# Altium footprint library Footprint_library.PcbLib: 95 footprints (part 1 of 6)
Each footprint in its own frame and in the unit in brackets; x right, y up, seen from the top. Pads: shape width x height; smd on the part's side, far side on the other; paste and mask are expansions set on the pad; w line width, h text height; cw(c..) or ccw(c..) is an arc to the next point about the centre after c.
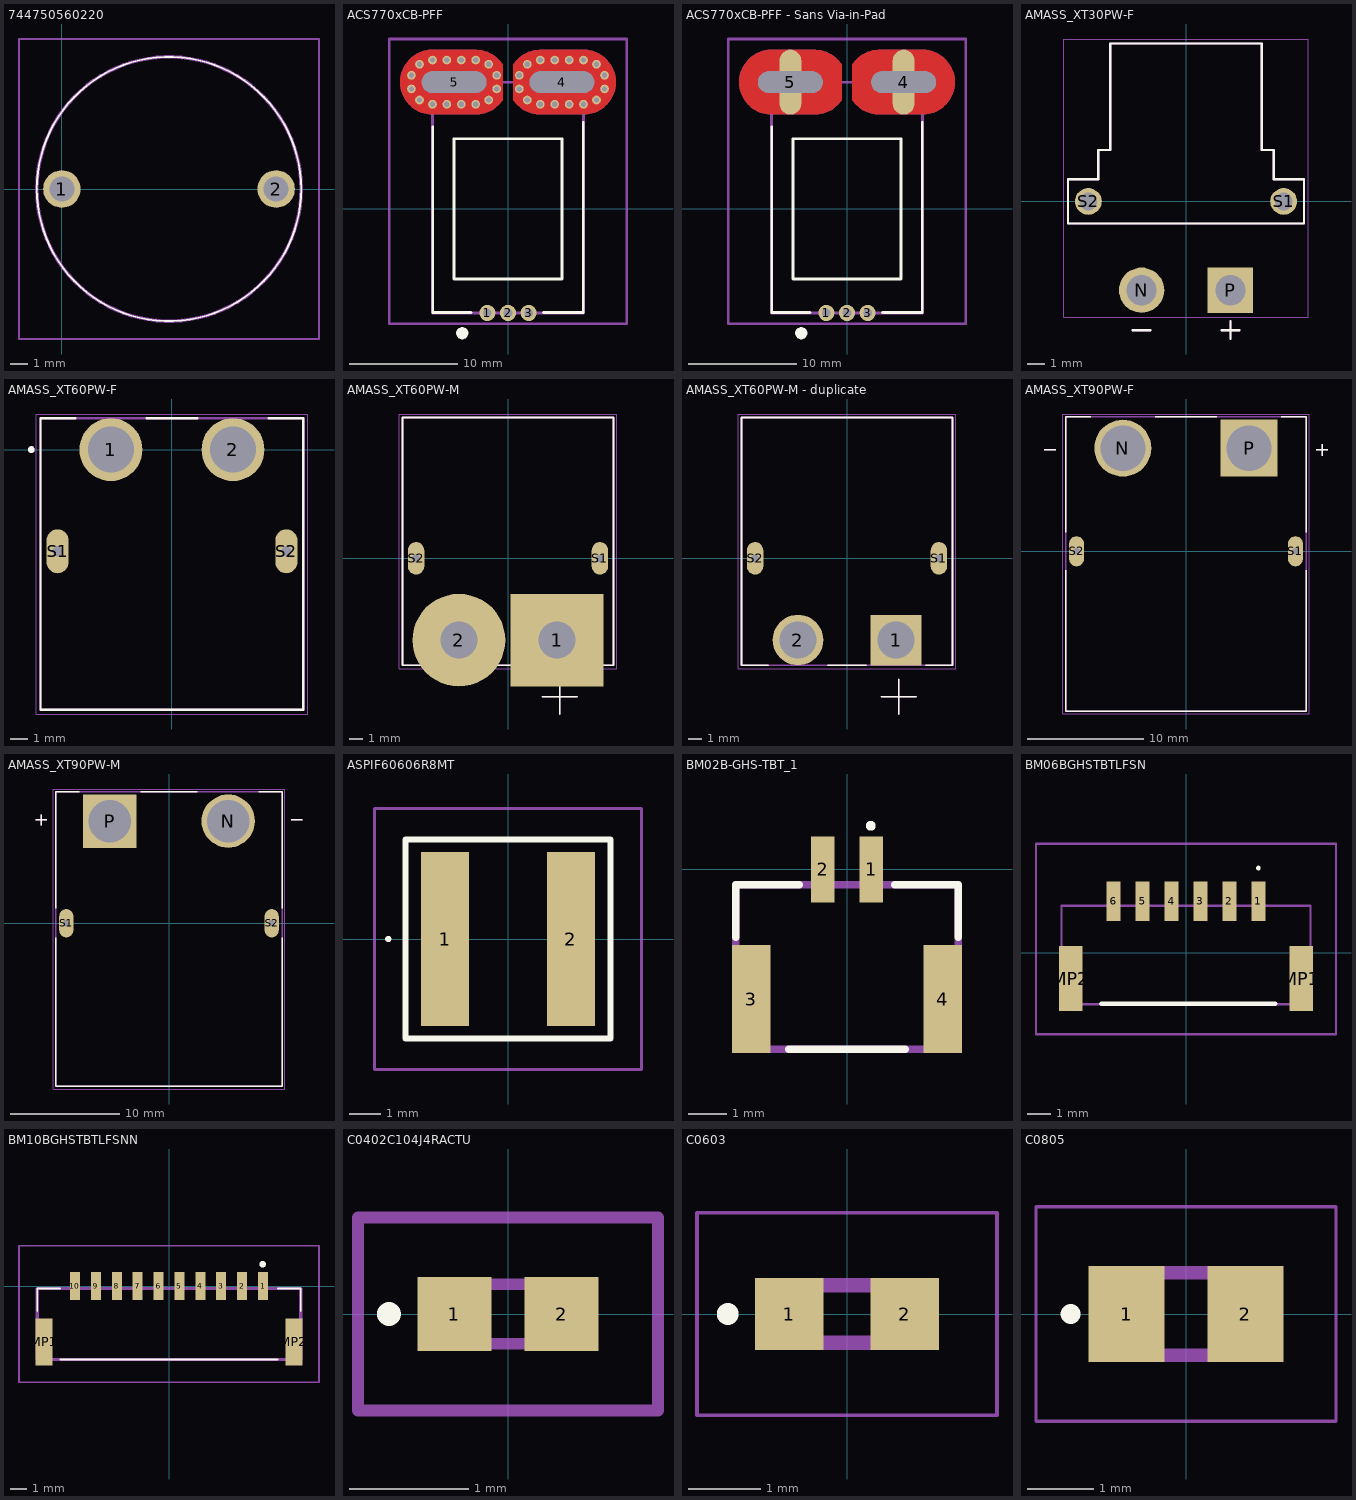
[diagram p0: the footprints below, top view; thin cyan lines are the x and y axes]

## 744750560220 [mm]
pads (2):
  round 2.1 hole 1.4: 1(0,0) 2(12,0)
Top Overlay:
  lines w0.1: -1.4,0 ccw(c6,0) 13.4,0 ccw(c6,0) -1.4,0
Mechanical 13:
  lines w0.2: -1.4,0 ccw(c6,0) 13.4,0 ccw(c6,0) -1.4,0
Mechanical 15:
  lines w0.1: -2.4,-8.4 14.4,-8.4 14.4,8.4 -2.4,8.4 -2.4,-8.4
3D body "744750560220.stp": height 15.9, standoff -5, extent -1.4,-7.4 13.4,7.4

## ACS770xCB-PFF [mm] "Current sensor"
pads (41):
  round 1.5 hole 0.8: 1(-1.91,-9.65) 2(0,-9.65) 3(1.91,-9.65)
  round 1.524 hole 2 slot 6 at 0 deg: 4(5,11.75) 5(-5,11.75)
  round 0.025 smd far side: 4(5.25,11.75) 5(-5.25,11.75)
  round 0.025 smd: 4(5.25,11.75) 5(-5.25,11.75)
  round 0.8 hole 0.5: NC(-8.95,11.117) NC(-8.95,12.383) NC(-8.205,10.092) NC(-8.205,13.408) NC(-7,9.7) NC(-7,13.8) NC(-5.667,9.7) NC(-5.667,13.8) NC(-4.333,9.7) NC(-4.333,13.8) NC(-3,9.7) NC(-3,13.8) NC(-1.795,13.408) NC(-1.795,10.092) NC(-1.05,12.383) NC(-1.05,11.117) NC(1.05,11.117) NC(1.05,12.383) NC(1.795,10.092) NC(1.795,13.408) NC(3,9.7) NC(3,13.8) NC(4.333,9.7) NC(4.333,13.8) NC(5.667,9.7) NC(5.667,13.8) NC(7,9.7) NC(7,13.8) NC(8.205,13.408) NC(8.205,10.092) NC(8.95,12.383) NC(8.95,11.117)
Top Layer:
  region: 7,14.75 3,14.75 2.877,14.75 2.631,14.73 2.388,14.69 2.149,14.629 1.916,14.55 1.69,14.452 1.473,14.335 1.266,14.201 1.071,14.051 0.889,13.885 0.721,13.704 0.568,13.511 0.5,13.408 0.5,10.092 0.568,9.989 0.721,9.796 0.889,9.615 1.071,9.449 1.266,9.299 1.473,9.165 1.69,9.048 1.916,8.95 2.149,8.871 2.388,8.81 2.631,8.77 2.877,8.75 3,8.75 7,8.75 7.118,8.75 7.353,8.768 7.586,8.805 7.815,8.86 8.039,8.933 8.257,9.023 8.467,9.13 8.668,9.254 8.859,9.392 9.038,9.545 9.205,9.712 9.358,9.891 9.496,10.082 9.62,10.283 9.727,10.493 9.817,10.711 9.89,10.935 9.945,11.164 9.982,11.397 10,11.632 10,11.868 9.982,12.103 9.945,12.336 9.89,12.565 9.817,12.789 9.727,13.007 9.62,13.217 9.496,13.418 9.358,13.609 9.205,13.788 9.038,13.955 8.859,14.108 8.668,14.246 8.467,14.37 8.257,14.477 8.039,14.567 7.815,14.64 7.586,14.695 7.353,14.732 7.118,14.75
  region: -7,8.75 -3,8.75 -2.877,8.75 -2.631,8.77 -2.388,8.81 -2.149,8.871 -1.916,8.95 -1.69,9.048 -1.473,9.165 -1.266,9.299 -1.071,9.449 -0.889,9.615 -0.721,9.796 -0.568,9.989 -0.5,10.092 -0.5,13.408 -0.568,13.511 -0.721,13.704 -0.889,13.885 -1.071,14.051 -1.266,14.201 -1.473,14.335 -1.69,14.452 -1.916,14.55 -2.149,14.629 -2.388,14.69 -2.631,14.73 -2.877,14.75 -3,14.75 -7,14.75 -7.118,14.75 -7.353,14.732 -7.586,14.695 -7.815,14.64 -8.039,14.567 -8.257,14.477 -8.467,14.37 -8.668,14.246 -8.859,14.108 -9.038,13.955 -9.205,13.788 -9.358,13.609 -9.496,13.418 -9.62,13.217 -9.727,13.007 -9.817,12.789 -9.89,12.565 -9.945,12.336 -9.982,12.103 -10,11.868 -10,11.632 -9.982,11.397 -9.945,11.164 -9.89,10.935 -9.817,10.711 -9.727,10.493 -9.62,10.283 -9.496,10.082 -9.358,9.891 -9.205,9.712 -9.038,9.545 -8.859,9.392 -8.668,9.254 -8.467,9.13 -8.257,9.023 -8.039,8.933 -7.815,8.86 -7.586,8.805 -7.353,8.768 -7.118,8.75
Bottom Layer:
  region: 7,14.75 3,14.75 2.877,14.75 2.631,14.73 2.388,14.69 2.149,14.629 1.916,14.55 1.69,14.452 1.473,14.335 1.266,14.201 1.071,14.051 0.889,13.885 0.721,13.704 0.568,13.511 0.5,13.408 0.5,10.092 0.568,9.989 0.721,9.796 0.889,9.615 1.071,9.449 1.266,9.299 1.473,9.165 1.69,9.048 1.916,8.95 2.149,8.871 2.388,8.81 2.631,8.77 2.877,8.75 3,8.75 7,8.75 7.118,8.75 7.353,8.768 7.586,8.805 7.815,8.86 8.039,8.933 8.257,9.023 8.467,9.13 8.668,9.254 8.859,9.392 9.038,9.545 9.205,9.712 9.358,9.891 9.496,10.082 9.62,10.283 9.727,10.493 9.817,10.711 9.89,10.935 9.945,11.164 9.982,11.397 10,11.632 10,11.868 9.982,12.103 9.945,12.336 9.89,12.565 9.817,12.789 9.727,13.007 9.62,13.217 9.496,13.418 9.358,13.609 9.205,13.788 9.038,13.955 8.859,14.108 8.668,14.246 8.467,14.37 8.257,14.477 8.039,14.567 7.815,14.64 7.586,14.695 7.353,14.732 7.118,14.75
  region: -7,8.75 -3,8.75 -2.877,8.75 -2.631,8.77 -2.388,8.81 -2.149,8.871 -1.916,8.95 -1.69,9.048 -1.473,9.165 -1.266,9.299 -1.071,9.449 -0.889,9.615 -0.721,9.796 -0.568,9.989 -0.5,10.092 -0.5,13.408 -0.568,13.511 -0.721,13.704 -0.889,13.885 -1.071,14.051 -1.266,14.201 -1.473,14.335 -1.69,14.452 -1.916,14.55 -2.149,14.629 -2.388,14.69 -2.631,14.73 -2.877,14.75 -3,14.75 -7,14.75 -7.118,14.75 -7.353,14.732 -7.586,14.695 -7.815,14.64 -8.039,14.567 -8.257,14.477 -8.467,14.37 -8.668,14.246 -8.859,14.108 -9.038,13.955 -9.205,13.788 -9.358,13.609 -9.496,13.418 -9.62,13.217 -9.727,13.007 -9.817,12.789 -9.89,12.565 -9.945,12.336 -9.982,12.103 -10,11.868 -10,11.632 -9.982,11.397 -9.945,11.164 -9.89,10.935 -9.817,10.711 -9.727,10.493 -9.62,10.283 -9.496,10.082 -9.358,9.891 -9.205,9.712 -9.038,9.545 -8.859,9.392 -8.668,9.254 -8.467,9.13 -8.257,9.023 -8.039,8.933 -7.815,8.86 -7.586,8.805 -7.353,8.768 -7.118,8.75
Top Overlay:
  region: -4.783,-11.526 -4.783,-11.633 -4.701,-11.831 -4.55,-11.983 -4.352,-12.065 -4.245,-12.065 -4.137,-12.065 -3.939,-11.983 -3.788,-11.831 -3.706,-11.633 -3.706,-11.526 -3.706,-11.419 -3.788,-11.221 -3.939,-11.069 -4.137,-10.987 -4.245,-10.987 -4.352,-10.987 -4.55,-11.069 -4.701,-11.221 -4.783,-11.419
  lines w0.254: -6.985,7.62 -6.985,-9.618 -3.429,-9.618 ; 3.302,-9.618 6.985,-9.618 6.985,8.001 ; -5,-6.5 5,-6.5 5,6.5 -5,6.5 -5,-6.5
Mechanical 1:
  lines w0.254: -7,-9.65 7,-9.65 7,11.75 -7,11.75 -7,-9.65
Mechanical 15:
  lines w0.254: -11,-10.65 11,-10.65 11,15.75 -11,15.75 -11,-10.65
3D body "ACS770KCB-150U-PFF-T.STEP": height 8, standoff -3.7, extent -7,-10.103 7,12.5

## ACS770xCB-PFF - Sans Via-in-Pad [mm] "Current sensor"
pads (5):
  round 1.5 hole 0.8: 1(-1.91,-9.65) 2(0,-9.65) 3(1.91,-9.65)
  oval 2.025x6.025 hole 2 slot 6 at 0 deg: 4(5.25,11.75) 5(-5.25,11.75)
Top Layer:
  region: 7,14.75 3,14.75 2.877,14.75 2.631,14.73 2.388,14.69 2.149,14.629 1.916,14.55 1.69,14.452 1.473,14.335 1.266,14.201 1.071,14.051 0.889,13.885 0.721,13.704 0.568,13.511 0.5,13.408 0.5,10.092 0.568,9.989 0.721,9.796 0.889,9.615 1.071,9.449 1.266,9.299 1.473,9.165 1.69,9.048 1.916,8.95 2.149,8.871 2.388,8.81 2.631,8.77 2.877,8.75 3,8.75 7,8.75 7.118,8.75 7.353,8.768 7.586,8.805 7.815,8.86 8.039,8.933 8.257,9.023 8.467,9.13 8.668,9.254 8.859,9.392 9.038,9.545 9.205,9.712 9.358,9.891 9.496,10.082 9.62,10.283 9.727,10.493 9.817,10.711 9.89,10.935 9.945,11.164 9.982,11.397 10,11.632 10,11.868 9.982,12.103 9.945,12.336 9.89,12.565 9.817,12.789 9.727,13.007 9.62,13.217 9.496,13.418 9.358,13.609 9.205,13.788 9.038,13.955 8.859,14.108 8.668,14.246 8.467,14.37 8.257,14.477 8.039,14.567 7.815,14.64 7.586,14.695 7.353,14.732 7.118,14.75
  region: -7,8.75 -3,8.75 -2.877,8.75 -2.631,8.77 -2.388,8.81 -2.149,8.871 -1.916,8.95 -1.69,9.048 -1.473,9.165 -1.266,9.299 -1.071,9.449 -0.889,9.615 -0.721,9.796 -0.568,9.989 -0.5,10.092 -0.5,13.408 -0.568,13.511 -0.721,13.704 -0.889,13.885 -1.071,14.051 -1.266,14.201 -1.473,14.335 -1.69,14.452 -1.916,14.55 -2.149,14.629 -2.388,14.69 -2.631,14.73 -2.877,14.75 -3,14.75 -7,14.75 -7.118,14.75 -7.353,14.732 -7.586,14.695 -7.815,14.64 -8.039,14.567 -8.257,14.477 -8.467,14.37 -8.668,14.246 -8.859,14.108 -9.038,13.955 -9.205,13.788 -9.358,13.609 -9.496,13.418 -9.62,13.217 -9.727,13.007 -9.817,12.789 -9.89,12.565 -9.945,12.336 -9.982,12.103 -10,11.868 -10,11.632 -9.982,11.397 -9.945,11.164 -9.89,10.935 -9.817,10.711 -9.727,10.493 -9.62,10.283 -9.496,10.082 -9.358,9.891 -9.205,9.712 -9.038,9.545 -8.859,9.392 -8.668,9.254 -8.467,9.13 -8.257,9.023 -8.039,8.933 -7.815,8.86 -7.586,8.805 -7.353,8.768 -7.118,8.75
Int1:
  region: 7,14.75 3,14.75 2.877,14.75 2.631,14.73 2.388,14.69 2.149,14.629 1.916,14.55 1.69,14.452 1.473,14.335 1.266,14.201 1.071,14.051 0.889,13.885 0.721,13.704 0.568,13.511 0.5,13.408 0.5,10.092 0.568,9.989 0.721,9.796 0.889,9.615 1.071,9.449 1.266,9.299 1.473,9.165 1.69,9.048 1.916,8.95 2.149,8.871 2.388,8.81 2.631,8.77 2.877,8.75 3,8.75 7,8.75 7.118,8.75 7.353,8.768 7.586,8.805 7.815,8.86 8.039,8.933 8.257,9.023 8.467,9.13 8.668,9.254 8.859,9.392 9.038,9.545 9.205,9.712 9.358,9.891 9.496,10.082 9.62,10.283 9.727,10.493 9.817,10.711 9.89,10.935 9.945,11.164 9.982,11.397 10,11.632 10,11.868 9.982,12.103 9.945,12.336 9.89,12.565 9.817,12.789 9.727,13.007 9.62,13.217 9.496,13.418 9.358,13.609 9.205,13.788 9.038,13.955 8.859,14.108 8.668,14.246 8.467,14.37 8.257,14.477 8.039,14.567 7.815,14.64 7.586,14.695 7.353,14.732 7.118,14.75
  region: -7,8.75 -3,8.75 -2.877,8.75 -2.631,8.77 -2.388,8.81 -2.149,8.871 -1.916,8.95 -1.69,9.048 -1.473,9.165 -1.266,9.299 -1.071,9.449 -0.889,9.615 -0.721,9.796 -0.568,9.989 -0.5,10.092 -0.5,13.408 -0.568,13.511 -0.721,13.704 -0.889,13.885 -1.071,14.051 -1.266,14.201 -1.473,14.335 -1.69,14.452 -1.916,14.55 -2.149,14.629 -2.388,14.69 -2.631,14.73 -2.877,14.75 -3,14.75 -7,14.75 -7.118,14.75 -7.353,14.732 -7.586,14.695 -7.815,14.64 -8.039,14.567 -8.257,14.477 -8.467,14.37 -8.668,14.246 -8.859,14.108 -9.038,13.955 -9.205,13.788 -9.358,13.609 -9.496,13.418 -9.62,13.217 -9.727,13.007 -9.817,12.789 -9.89,12.565 -9.945,12.336 -9.982,12.103 -10,11.868 -10,11.632 -9.982,11.397 -9.945,11.164 -9.89,10.935 -9.817,10.711 -9.727,10.493 -9.62,10.283 -9.496,10.082 -9.358,9.891 -9.205,9.712 -9.038,9.545 -8.859,9.392 -8.668,9.254 -8.467,9.13 -8.257,9.023 -8.039,8.933 -7.815,8.86 -7.586,8.805 -7.353,8.768 -7.118,8.75
Int2:
  region: -7,8.75 -3,8.75 -2.877,8.75 -2.631,8.77 -2.388,8.81 -2.149,8.871 -1.916,8.95 -1.69,9.048 -1.473,9.165 -1.266,9.299 -1.071,9.449 -0.889,9.615 -0.721,9.796 -0.568,9.989 -0.5,10.092 -0.5,13.408 -0.568,13.511 -0.721,13.704 -0.889,13.885 -1.071,14.051 -1.266,14.201 -1.473,14.335 -1.69,14.452 -1.916,14.55 -2.149,14.629 -2.388,14.69 -2.631,14.73 -2.877,14.75 -3,14.75 -7,14.75 -7.118,14.75 -7.353,14.732 -7.586,14.695 -7.815,14.64 -8.039,14.567 -8.257,14.477 -8.467,14.37 -8.668,14.246 -8.859,14.108 -9.038,13.955 -9.205,13.788 -9.358,13.609 -9.496,13.418 -9.62,13.217 -9.727,13.007 -9.817,12.789 -9.89,12.565 -9.945,12.336 -9.982,12.103 -10,11.868 -10,11.632 -9.982,11.397 -9.945,11.164 -9.89,10.935 -9.817,10.711 -9.727,10.493 -9.62,10.283 -9.496,10.082 -9.358,9.891 -9.205,9.712 -9.038,9.545 -8.859,9.392 -8.668,9.254 -8.467,9.13 -8.257,9.023 -8.039,8.933 -7.815,8.86 -7.586,8.805 -7.353,8.768 -7.118,8.75
Bottom Layer:
  region: 7,14.75 3,14.75 2.877,14.75 2.631,14.73 2.388,14.69 2.149,14.629 1.916,14.55 1.69,14.452 1.473,14.335 1.266,14.201 1.071,14.051 0.889,13.885 0.721,13.704 0.568,13.511 0.5,13.408 0.5,10.092 0.568,9.989 0.721,9.796 0.889,9.615 1.071,9.449 1.266,9.299 1.473,9.165 1.69,9.048 1.916,8.95 2.149,8.871 2.388,8.81 2.631,8.77 2.877,8.75 3,8.75 7,8.75 7.118,8.75 7.353,8.768 7.586,8.805 7.815,8.86 8.039,8.933 8.257,9.023 8.467,9.13 8.668,9.254 8.859,9.392 9.038,9.545 9.205,9.712 9.358,9.891 9.496,10.082 9.62,10.283 9.727,10.493 9.817,10.711 9.89,10.935 9.945,11.164 9.982,11.397 10,11.632 10,11.868 9.982,12.103 9.945,12.336 9.89,12.565 9.817,12.789 9.727,13.007 9.62,13.217 9.496,13.418 9.358,13.609 9.205,13.788 9.038,13.955 8.859,14.108 8.668,14.246 8.467,14.37 8.257,14.477 8.039,14.567 7.815,14.64 7.586,14.695 7.353,14.732 7.118,14.75
  region: -7,8.75 -3,8.75 -2.877,8.75 -2.631,8.77 -2.388,8.81 -2.149,8.871 -1.916,8.95 -1.69,9.048 -1.473,9.165 -1.266,9.299 -1.071,9.449 -0.889,9.615 -0.721,9.796 -0.568,9.989 -0.5,10.092 -0.5,13.408 -0.568,13.511 -0.721,13.704 -0.889,13.885 -1.071,14.051 -1.266,14.201 -1.473,14.335 -1.69,14.452 -1.916,14.55 -2.149,14.629 -2.388,14.69 -2.631,14.73 -2.877,14.75 -3,14.75 -7,14.75 -7.118,14.75 -7.353,14.732 -7.586,14.695 -7.815,14.64 -8.039,14.567 -8.257,14.477 -8.467,14.37 -8.668,14.246 -8.859,14.108 -9.038,13.955 -9.205,13.788 -9.358,13.609 -9.496,13.418 -9.62,13.217 -9.727,13.007 -9.817,12.789 -9.89,12.565 -9.945,12.336 -9.982,12.103 -10,11.868 -10,11.632 -9.982,11.397 -9.945,11.164 -9.89,10.935 -9.817,10.711 -9.727,10.493 -9.62,10.283 -9.496,10.082 -9.358,9.891 -9.205,9.712 -9.038,9.545 -8.859,9.392 -8.668,9.254 -8.467,9.13 -8.257,9.023 -8.039,8.933 -7.815,8.86 -7.586,8.805 -7.353,8.768 -7.118,8.75
Top Overlay:
  region: -4.783,-11.526 -4.783,-11.633 -4.701,-11.831 -4.55,-11.983 -4.352,-12.065 -4.245,-12.065 -4.137,-12.065 -3.939,-11.983 -3.788,-11.831 -3.706,-11.633 -3.706,-11.526 -3.706,-11.419 -3.788,-11.221 -3.939,-11.069 -4.137,-10.987 -4.245,-10.987 -4.352,-10.987 -4.55,-11.069 -4.701,-11.221 -4.783,-11.419
  lines w0.254: -6.985,7.62 -6.985,-9.618 -3.429,-9.618 ; 3.302,-9.618 6.985,-9.618 6.985,8.001 ; -5,-6.5 -5,6.5 5,6.5 5,-6.5 -5,-6.5
Mechanical 1:
  lines w0.254: -7,-9.65 -7,11.75 7,11.75 7,-9.65 -7,-9.65
Mechanical 15:
  lines w0.254: -11,-10.65 -11,15.75 11,15.75 11,-10.65 -11,-10.65
3D body "ACS770KCB-150U-PFF-T.STEP": height 8, standoff -3.7, extent -7,-10.103 7,12.5

## AMASS_XT30PW-F [mm]
pads (4):
  round 2.55 hole 1.7: N(-2.5,-5)
  rect 2.55x2.55 / inner round 2.55 / far side rect 2.55x2.55 hole 1.7: P(2.5,-5)
  round 1.508 hole 1: S1(5.5,0) S2(-5.5,0)
Top Overlay:
  lines w0.127: -3,-7.25 -2,-7.25 ; 2,-7.25 3,-7.25 ; 2.5,-7.75 2.5,-6.75 ; -6.65,-1.25 -6.65,1.25 -4.95,1.25 -4.95,2.9 -4.27,2.9 -4.27,8.9 4.27,8.9 4.27,2.9 4.95,2.9 4.95,1.25 6.65,1.25 6.65,-1.25 -6.65,-1.25
Mechanical 13:
  lines w0.127: -3,-7.25 -2,-7.25 ; 2,-7.25 3,-7.25 ; 2.5,-7.75 2.5,-6.75 ; -6.65,-1.25 -6.65,1.25 -4.95,1.25 -4.95,2.9 -4.27,2.9 -4.27,8.9 4.27,8.9 4.27,2.9 4.95,2.9 4.95,1.25 6.65,1.25 6.65,-1.25 -6.65,-1.25
Mechanical 15:
  lines w0.05: -6.9,-6.525 -6.9,9.15 6.9,9.15 6.9,-6.525 -6.9,-6.525
3D body "step_temp.STEP": height 5, standoff -2, extent -6.65,-6 6.65,8.9

## AMASS_XT60PW-F [mm]
pads (4):
  round 3.716 hole 2.7: 1(-3.6,0) 2(3.6,0)
  oval 1.3x2.6 hole 0.6 square: S1(-6.75,-6) S2(6.75,-6)
Top Overlay:
  circle w0.2: c-8.3,0 r0.1
  lines w0.127: -5.71,1.85 -7.75,1.85 -7.75,-15.35 7.75,-15.35 7.75,1.85 5.71,1.85 ; -1.49,1.85 1.49,1.85
Mechanical 13:
  circle w0.2: c-8.3,0 r0.1
  lines w0.127: -7.75,-15.35 -7.75,1.85 7.75,1.85 7.75,-15.35 -7.75,-15.35
Mechanical 15:
  lines w0.05: -8,-15.6 -8,2.1 8,2.1 8,-15.6 -8,-15.6
3D body "step_temp.STEP": height 8.4, standoff -2.55, extent -7.75,-15.35 7.75,1.85

## AMASS_XT60PW-M [mm]
pads (4):
  rect 6.8x6.8 / inner round 6.8 / far side rect 6.8x6.8 hole 2.7: 1(3.6,-6)
  round 6.8 hole 2.7: 2(-3.6,-6)
  oval 1.2x2.4 hole 0.6 square: S1(6.75,0) S2(-6.75,0)
Top Overlay:
  lines w0.127: -5.778,-7.85 -7.75,-7.85 -7.75,10.35 7.75,10.35 7.75,-7.85 5.778,-7.85 ; -1.422,-7.85 1.422,-7.85 ; 2.54,-10.16 3.81,-10.16 ; 3.81,-11.43 3.81,-10.16 ; 3.81,-8.89 3.81,-10.16 ; 5.08,-10.16 3.81,-10.16
Mechanical 13:
  lines w0.127: 2.54,-10.16 3.81,-10.16 ; 3.81,-11.43 3.81,-10.16 ; 3.81,-8.89 3.81,-10.16 ; 5.08,-10.16 3.81,-10.16 ; -7.75,-7.85 7.75,-7.85 7.75,10.35 -7.75,10.35 -7.75,-7.85
Mechanical 15:
  lines w0.05: -8,-8.11 8,-8.11 8,10.6 -8,10.6 -8,-8.11
3D body "step_temp.STEP": height 8.4, standoff -2.55, extent -7.75,-7.85 7.75,10.35

## AMASS_XT60PW-M - duplicate [mm]
height 8.4
pads (4):
  rect 3.716x3.716 / inner round 3.716 / far side rect 3.716x3.716 hole 2.7: 1(3.6,-6)
  round 3.716 hole 2.7: 2(-3.6,-6)
  oval 1.2x2.4 hole 0.6 square: S1(6.75,0) S2(-6.75,0)
Top Overlay:
  lines w0.127: -5.778,-7.85 -7.75,-7.85 -7.75,10.35 7.75,10.35 7.75,-7.85 5.778,-7.85 ; -1.422,-7.85 1.422,-7.85 ; 2.54,-10.16 3.81,-10.16 ; 3.81,-11.43 3.81,-10.16 ; 3.81,-8.89 3.81,-10.16 ; 5.08,-10.16 3.81,-10.16
Mechanical 13:
  lines w0.127: 2.54,-10.16 3.81,-10.16 ; 3.81,-11.43 3.81,-10.16 ; 3.81,-8.89 3.81,-10.16 ; 5.08,-10.16 3.81,-10.16 ; -7.75,-7.85 -7.75,10.35 7.75,10.35 7.75,-7.85 -7.75,-7.85
Mechanical 15:
  lines w0.05: -8,-8.11 -8,10.6 8,10.6 8,-8.11 -8,-8.11
3D body "step_temp.STEP": height 8.4, standoff -2.55, extent -7.75,-7.85 7.75,10.35

## AMASS_XT90PW-F [mm]
height 10.3
pads (4):
  round 4.916 hole 3.9: N(-5.45,8.9)
  rect 4.916x4.916 / inner round 4.916 / far side rect 4.916x4.916 hole 3.9: P(5.45,8.9)
  oval 1.3x2.6 hole 0.6 square: S1(9.45,0) S2(-9.45,0)
Top Overlay:
  lines w0.127: -12.25,8.75 -11.25,8.75 ; -10.4,-1.62 -10.4,-13.8 10.4,-13.8 10.4,-1.62 ; -10.4,1.62 -10.4,11.6 -8.228,11.6 ; -2.672,11.6 2.672,11.6 ; 8.228,11.6 10.4,11.6 10.4,1.62 ; 11.25,8.75 12.25,8.75 ; 11.75,8.25 11.75,9.25
Mechanical 13:
  lines w0.127: -12.25,8.75 -11.25,8.75 ; 11.25,8.75 12.25,8.75 ; 11.75,8.25 11.75,9.25 ; -10.4,-13.8 10.4,-13.8 10.4,11.6 -10.4,11.6 -10.4,-13.8
Mechanical 15:
  lines w0.05: -10.65,-14.05 -10.65,11.85 10.65,11.85 10.65,-14.05 -10.65,-14.05
3D body "step_temp.STEP": height 10.3, standoff -3.2, extent -10.65,-13.8 10.65,11.6

## AMASS_XT90PW-M [mm]
pads (4):
  round 4.916 hole 3.9: N(5.45,9.4)
  rect 4.916x4.916 / inner round 4.916 / far side rect 4.916x4.916 hole 3.9: P(-5.45,9.4)
  oval 1.3x2.6 hole 0.6 square: S1(-9.45,0) S2(9.45,0)
Top Overlay:
  lines w0.127: -12.25,9.5 -11.25,9.5 ; -11.75,9 -11.75,10 ; -10.4,-1.35 -10.4,-15 10.4,-15 10.4,-1.35 ; -10.4,1.4 -10.4,12.1 -8.25,12.1 ; -2.6,12.1 2.6,12.1 ; 8.25,12.1 10.4,12.1 10.4,1.4 ; 11.25,9.5 12.25,9.5
Mechanical 13:
  lines w0.127: -12.25,9.5 -11.25,9.5 ; -11.75,9 -11.75,10 ; 11.25,9.5 12.25,9.5 ; -10.4,-15 -10.4,12.1 10.4,12.1 10.4,-15 -10.4,-15
Mechanical 15:
  lines w0.05: -10.65,-15.25 -10.65,12.35 10.65,12.35 10.65,-15.25 -10.65,-15.25
3D body "step_temp.STEP": height 10.3, standoff -3.2, extent -10.6,-15 10.6,12.1

## ASPIF60606R8MT [mm]
pads (2):
  rect 1.55x5.6 smd: 1(-2.025,0) 2(2.025,0)
Top Overlay:
  lines w0.1: -3.9,0 cw(c-3.85,0) -3.8,0 cw(c-3.85,0) -3.9,0
  lines w0.2: -3.3,-3.2 -3.3,3.2 3.3,3.2 3.3,-3.2 -3.3,-3.2
Mechanical 13:
  lines w0.1: -3.3,-3.2 -3.3,3.2 3.3,3.2 3.3,-3.2 -3.3,-3.2
Mechanical 15:
  lines w0.1: -4.3,-4.2 -4.3,4.2 4.3,4.2 4.3,-4.2 -4.3,-4.2
3D body "ASPI-F6060-6R8M-T.stp": height 6.1, standoff 0, extent -3.3,-3.2 3.3,3.2

## BM02B-GHS-TBT_1 [mm]
pads (4):
  rect 0.6x1.7 smd: 1(0.625,0) 2(-0.625,0)
  rect 1x2.8 smd: 3(-2.475,-3.35) 4(2.475,-3.35)
Top Overlay:
  circle w0.2: c0.616,1.126 r0.026
  lines w0.2: -2.875,-1.75 -2.875,-0.4 -1.236,-0.4 ; -1.5,-4.65 1.5,-4.65 ; 1.236,-0.4 2.875,-0.4 2.875,-1.75
Mechanical 13:
  lines w0.2: -2.875,-4.65 2.875,-4.65 2.875,-0.4 -2.875,-0.4 -2.875,-4.65
3D body "BM02B-GHS-TBT.STEP": height 4.05, standoff -0.15, extent -2.875,-4.65 2.875,0.3

## BM06BGHSTBTLFSN [mm]
pads (8):
  rect 0.6x1.7 smd: 1(3.125,2.225) 2(1.875,2.225) 3(0.625,2.225) 4(-0.625,2.225) 5(-1.875,2.225) 6(-3.125,2.225)
  rect 1x2.8 smd: MP1(4.975,-1.125) MP2(-4.975,-1.125)
Top Overlay:
  lines w0.1: 3.125,3.6 cw(c3.125,3.65) 3.125,3.7 cw(c3.125,3.65) 3.125,3.6
  lines w0.2: -3.65,-2.2 3.85,-2.2
Mechanical 13:
  lines w0.1: -5.375,-2.225 -5.375,2.025 5.375,2.025 5.375,-2.225 -5.375,-2.225
Mechanical 15:
  lines w0.1: -6.475,-3.525 -6.475,4.7 6.475,4.7 6.475,-3.525 -6.475,-3.525
3D body "BM06B-GHS-TBT_LF__SN_.stp": height 4.21, standoff 0, extent -5.37,-2.245 5.38,2.705

## BM10BGHSTBTLFSNN [mm]
pads (12):
  rect 0.6x1.7 smd: 1(5.625,0) 2(4.375,0) 3(3.125,0) 4(1.875,0) 5(0.625,0) 6(-0.625,0) 7(-1.875,0) 8(-3.125,0) 9(-4.375,0) 10(-5.625,0)
  rect 1x2.8 smd: MP1(-7.475,-3.35) MP2(7.475,-3.35)
Top Overlay:
  lines w0.1: -7.875,-1.5 -7.875,-0.15 -6.5,-0.15 ; -6.5,-4.4 6.5,-4.4 ; 6.5,-0.15 7.875,-0.15 7.875,-1.5
  lines w0.2: 5.5,1.3 cw(c5.6,1.3) 5.7,1.3 cw(c5.6,1.3) 5.5,1.3
Mechanical 13:
  lines w0.2: -7.875,-4.4 7.875,-4.4 7.875,-0.15 -7.875,-0.15 -7.875,-4.4
Mechanical 15:
  lines w0.1: -8.975,-5.75 8.975,-5.75 8.975,2.4 -8.975,2.4 -8.975,-5.75
3D body "BM10B-GHS-TBT.STEP": height 4.05, standoff -0.15, extent -7.875,-4.538 7.875,0.412

## C0402C104J4RACTU [mm]
pads (2):
  rect 0.62x0.62 smd: 1(-0.45,0) 2(0.45,0)
Top Overlay:
  lines w0.1: -1,-0.05 cw(c-1,0) -1,0.05 cw(c-1,0) -1,-0.05
Mechanical 13:
  lines w0.1: -0.5,-0.25 0.5,-0.25 0.5,0.25 -0.5,0.25 -0.5,-0.25
Mechanical 15:
  lines w0.1: -1.26,-0.81 1.26,-0.81 1.26,0.81 -1.26,0.81 -1.26,-0.81
3D body "C0402C471J5GACTU.stp": height 0.55, standoff 0, extent -0.52,-0.28 0.53,0.27

## C0603 [mm]
pads (2):
  rect 0.95x1 smd: 1(-0.8,0) 2(0.8,0)
Top Overlay:
  circle w0.2: c-1.65,0 r0.05
Mechanical 13:
  lines w0.2: -0.8,-0.4 0.8,-0.4 0.8,0.4 -0.8,0.4 -0.8,-0.4
Mechanical 15:
  lines w0.05: -2.075,-1.4 2.075,-1.4 2.075,1.4 -2.075,1.4 -2.075,-1.4
3D body "C0603C104K5RACTU.stp": height 0.87, standoff 0, extent -0.87,-0.48 0.88,0.47

## C0805 [mm]
pads (2):
  rect 1.15x1.45 smd: 1(-0.9,0) 2(0.9,0)
Top Overlay:
  circle w0.2: c-1.75,0 r0.05
Mechanical 13:
  lines w0.2: -1,-0.625 -1,0.625 1,0.625 1,-0.625 -1,-0.625
Mechanical 15:
  lines w0.05: -2.275,-1.625 -2.275,1.625 2.275,1.625 2.275,-1.625 -2.275,-1.625
3D body "C0805C473K5RACTU.stp": height 1.5, standoff 0, extent -1.15,-0.78 1.15,0.77